# Altium footprint library SAMTEC_SSW-106-X-X-S-002.PcbLib: 1 footprints
Each footprint in its own frame and in the unit in brackets; x right, y up, seen from the top. Pads: shape width x height; smd on the part's side, far side on the other; paste and mask are expansions set on the pad; w line width, h text height; cw(c..) or ccw(c..) is an arc to the next point about the centre after c.
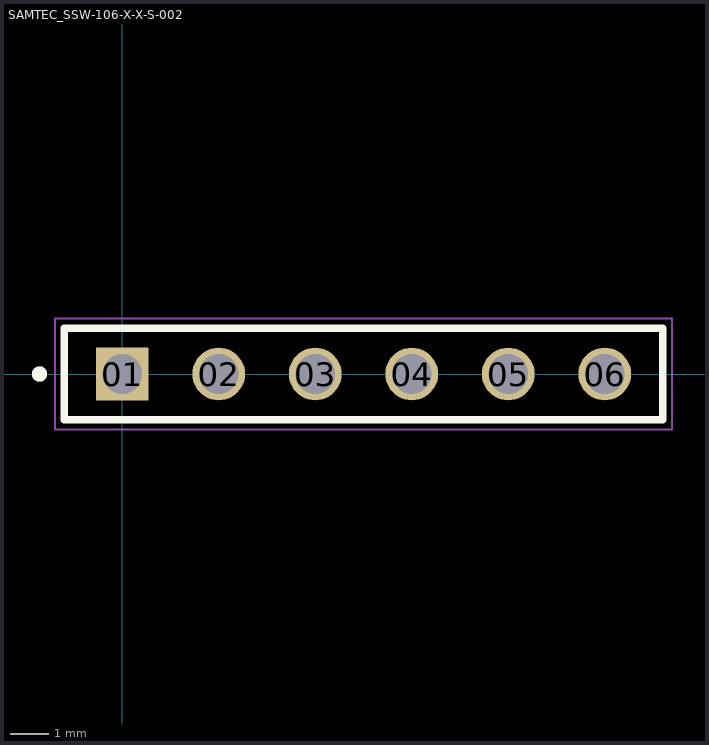
[diagram p0: the footprint, top view; thin cyan lines are the x and y axes]

## SAMTEC_SSW-106-X-X-S-002 [mm]
pads (6):
  rect 1.39x1.39 / inner round 1.39 / far side rect 1.39x1.39 hole 1.04: 01(0,0)
  round 1.39 hole 1.04: 02(2.54,0) 03(5.08,0) 04(7.62,0) 05(10.16,0) 06(12.7,0)
Top Overlay:
  circle w0.2: c-2.175,0 r0.1
  lines w0.2: -1.525,-1.206 14.225,-1.206 14.225,1.206 -1.525,1.206 -1.525,-1.206
Mechanical 13:
  circle w0.2: c-2.175,0 r0.1
  lines w0.1: -1.525,-1.206 -1.525,1.206 ; -1.525,-1.206 14.225,-1.206 ; -1.525,-1.206 -1.525,1.206 ; -1.525,1.206 14.225,1.206 ; -1.525,1.206 14.225,1.206 ; 14.225,-1.206 14.225,1.206 ; 14.225,-1.206 14.225,1.206
Mechanical 15:
  lines w0.05: -1.775,-1.456 14.475,-1.456 14.475,1.456 -1.775,1.456 -1.775,-1.456
3D body "SSW-106-01-T-S-002.stp": height 8.51, standoff -2.64, extent -1.524,-1.206 14.224,1.206